# Altium footprint library AdamsParts.PcbLib: 238 footprints (part 3 of 15)
Each footprint in its own frame and in the unit in brackets; x right, y up, seen from the top. Pads: shape width x height; smd on the part's side, far side on the other; paste and mask are expansions set on the pad; w line width, h text height; cw(c..) or ccw(c..) is an arc to the next point about the centre after c.
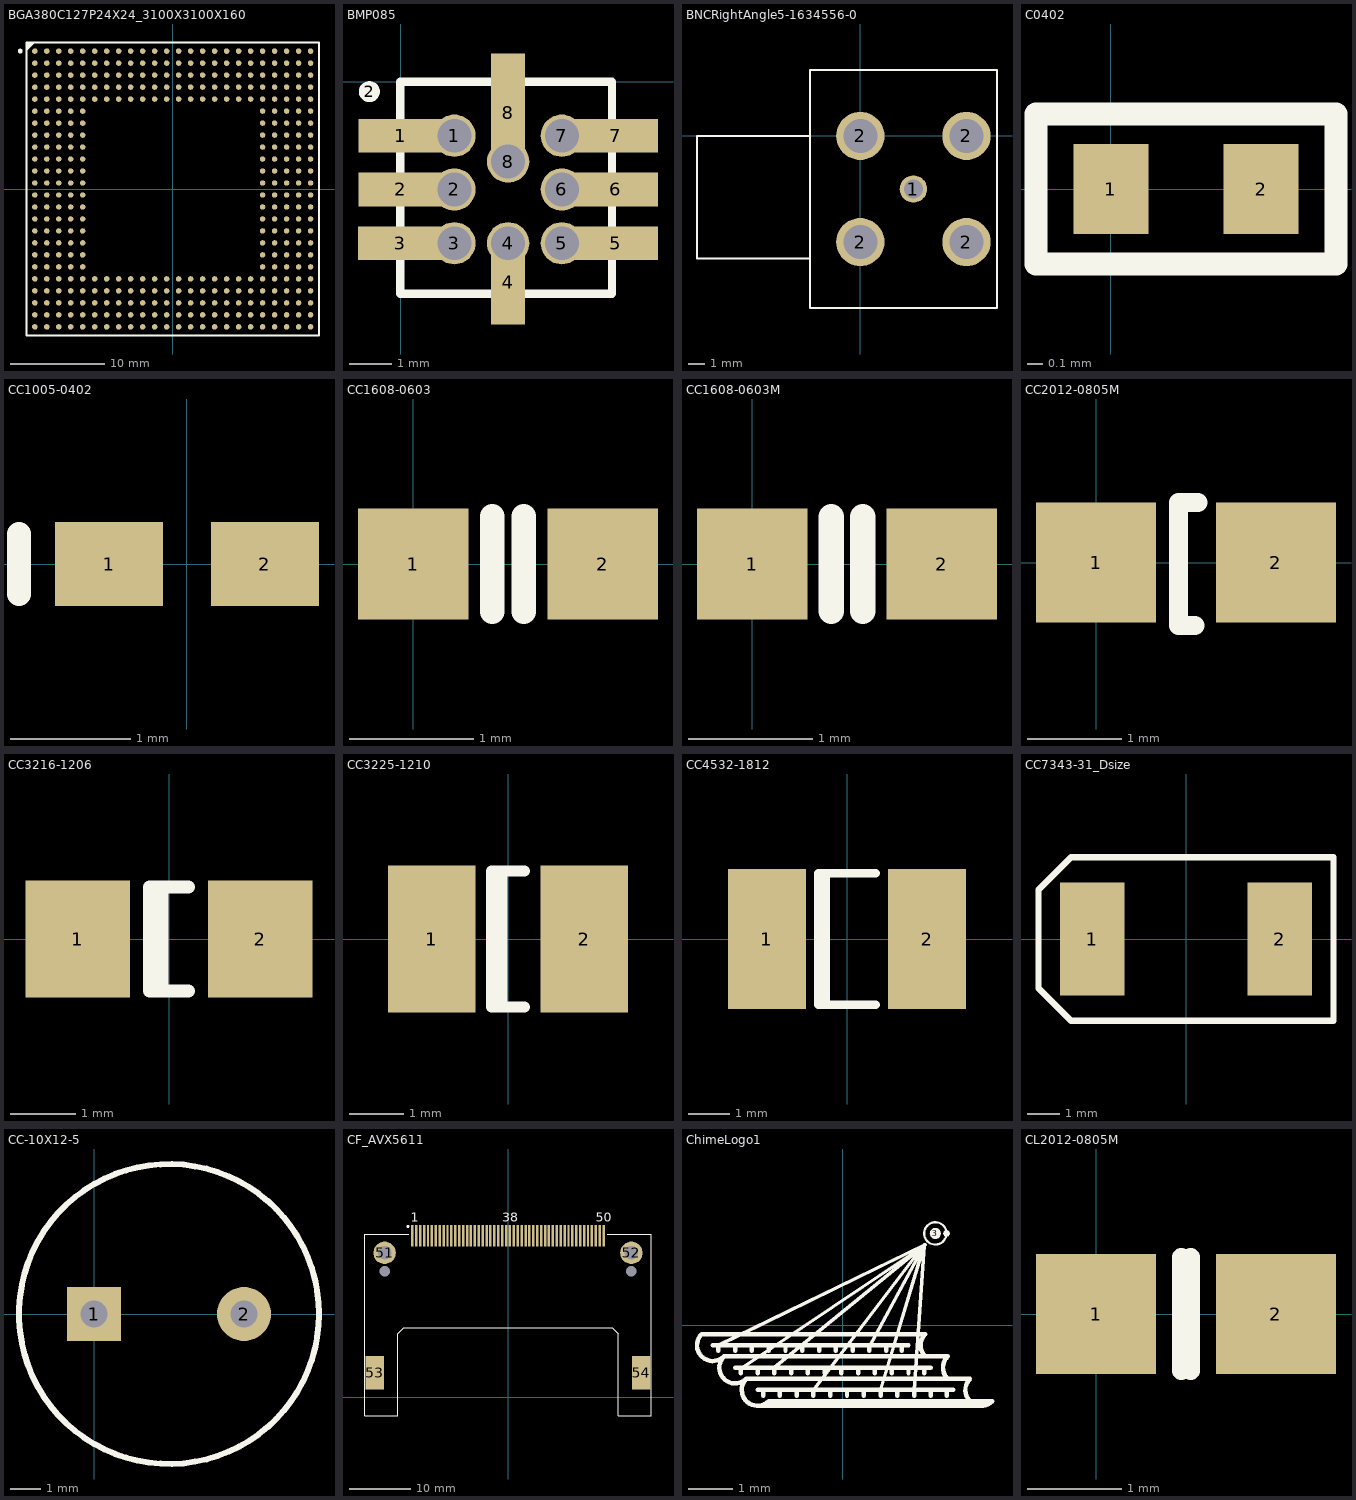
[diagram p2: the footprints below, top view; thin cyan lines are the x and y axes]

## BGA380C127P24X24_3100X3100X160 [mm] "BGA, 380-Leads, Body 31.0x31.0mm,  Pitch 1.27mm"
height 1.6
pads (380):
  round 0.58 smd: A1(-14.605,14.605) A2(-13.335,14.605) A3(-12.065,14.605) A4(-10.795,14.605) A5(-9.525,14.605) A6(-8.255,14.605) A7(-6.985,14.605) A8(-5.715,14.605) A9(-4.445,14.605) A10(-3.175,14.605) A11(-1.905,14.605) A12(-0.635,14.605) A13(0.635,14.605) A14(1.905,14.605) A15(3.175,14.605) A16(4.445,14.605) A17(5.715,14.605) A18(6.985,14.605) A19(8.255,14.605) A20(9.525,14.605) A21(10.795,14.605) A22(12.065,14.605) A23(13.335,14.605) A24(14.605,14.605) AA1(-14.605,-10.795) AA2(-13.335,-10.795) AA3(-12.065,-10.795) AA4(-10.795,-10.795) AA5(-9.525,-10.795) AA6(-8.255,-10.795) AA7(-6.985,-10.795) AA8(-5.715,-10.795) AA9(-4.445,-10.795) AA10(-3.175,-10.795) AA11(-1.905,-10.795) AA12(-0.635,-10.795) AA13(0.635,-10.795) AA14(1.905,-10.795) AA15(3.175,-10.795) AA16(4.445,-10.795) AA17(5.715,-10.795) AA18(6.985,-10.795) AA19(8.255,-10.795) AA20(9.525,-10.795) AA21(10.795,-10.795) AA22(12.065,-10.795) AA23(13.335,-10.795) AA24(14.605,-10.795) AB1(-14.605,-12.065) AB2(-13.335,-12.065) AB3(-12.065,-12.065) AB4(-10.795,-12.065) AB5(-9.525,-12.065) AB6(-8.255,-12.065) AB7(-6.985,-12.065) AB8(-5.715,-12.065) AB9(-4.445,-12.065) AB10(-3.175,-12.065) AB11(-1.905,-12.065) AB12(-0.635,-12.065) AB13(0.635,-12.065) AB14(1.905,-12.065) AB15(3.175,-12.065) AB16(4.445,-12.065) AB17(5.715,-12.065) AB18(6.985,-12.065) AB19(8.255,-12.065) AB20(9.525,-12.065) AB21(10.795,-12.065) AB22(12.065,-12.065) AB23(13.335,-12.065) AB24(14.605,-12.065) AC1(-14.605,-13.335) AC2(-13.335,-13.335) AC3(-12.065,-13.335) AC4(-10.795,-13.335) AC5(-9.525,-13.335) AC6(-8.255,-13.335) AC7(-6.985,-13.335) AC8(-5.715,-13.335) AC9(-4.445,-13.335) AC10(-3.175,-13.335) AC11(-1.905,-13.335) AC12(-0.635,-13.335) AC13(0.635,-13.335) AC14(1.905,-13.335) AC15(3.175,-13.335) AC16(4.445,-13.335) AC17(5.715,-13.335) AC18(6.985,-13.335) AC19(8.255,-13.335) AC20(9.525,-13.335) AC21(10.795,-13.335) AC22(12.065,-13.335) AC23(13.335,-13.335) AC24(14.605,-13.335) AD1(-14.605,-14.605) AD2(-13.335,-14.605) AD3(-12.065,-14.605) AD4(-10.795,-14.605) AD5(-9.525,-14.605) AD6(-8.255,-14.605) AD7(-6.985,-14.605) AD8(-5.715,-14.605) AD9(-4.445,-14.605) AD10(-3.175,-14.605) AD11(-1.905,-14.605) AD12(-0.635,-14.605) AD13(0.635,-14.605) AD14(1.905,-14.605) AD15(3.175,-14.605) AD16(4.445,-14.605) AD17(5.715,-14.605) AD18(6.985,-14.605) AD19(8.255,-14.605) AD20(9.525,-14.605) AD21(10.795,-14.605) AD22(12.065,-14.605) AD23(13.335,-14.605) AD24(14.605,-14.605) B1(-14.605,13.335) B2(-13.335,13.335) B3(-12.065,13.335) B4(-10.795,13.335) B5(-9.525,13.335) B6(-8.255,13.335) B7(-6.985,13.335) B8(-5.715,13.335) B9(-4.445,13.335) B10(-3.175,13.335) B11(-1.905,13.335) B12(-0.635,13.335) B13(0.635,13.335) B14(1.905,13.335) B15(3.175,13.335) B16(4.445,13.335) B17(5.715,13.335) B18(6.985,13.335) B19(8.255,13.335) B20(9.525,13.335) B21(10.795,13.335) B22(12.065,13.335) B23(13.335,13.335) B24(14.605,13.335) C1(-14.605,12.065) C2(-13.335,12.065) C3(-12.065,12.065) C4(-10.795,12.065) C5(-9.525,12.065) C6(-8.255,12.065) C7(-6.985,12.065) C8(-5.715,12.065) C9(-4.445,12.065) C10(-3.175,12.065) C11(-1.905,12.065) C12(-0.635,12.065) C13(0.635,12.065) C14(1.905,12.065) C15(3.175,12.065) C16(4.445,12.065) C17(5.715,12.065) C18(6.985,12.065) C19(8.255,12.065) C20(9.525,12.065) C21(10.795,12.065) C22(12.065,12.065) C23(13.335,12.065) C24(14.605,12.065) D1(-14.605,10.795) D2(-13.335,10.795) D3(-12.065,10.795) D4(-10.795,10.795) D5(-9.525,10.795) D6(-8.255,10.795) D7(-6.985,10.795) D8(-5.715,10.795) D9(-4.445,10.795) D10(-3.175,10.795) D11(-1.905,10.795) D12(-0.635,10.795) D13(0.635,10.795) D14(1.905,10.795) D15(3.175,10.795) D16(4.445,10.795) D17(5.715,10.795) D18(6.985,10.795) D19(8.255,10.795) D20(9.525,10.795) D21(10.795,10.795) D22(12.065,10.795) D23(13.335,10.795) D24(14.605,10.795) E1(-14.605,9.525) E2(-13.335,9.525) E3(-12.065,9.525) E4(-10.795,9.525) E5(-9.525,9.525) E6(-8.255,9.525) E7(-6.985,9.525) E8(-5.715,9.525) E9(-4.445,9.525) E10(-3.175,9.525) E11(-1.905,9.525) E12(-0.635,9.525) E13(0.635,9.525) E14(1.905,9.525) E15(3.175,9.525) E16(4.445,9.525) E17(5.715,9.525) E18(6.985,9.525) E19(8.255,9.525) E20(9.525,9.525) E21(10.795,9.525) E22(12.065,9.525) E23(13.335,9.525) E24(14.605,9.525) F1(-14.605,8.255) F2(-13.335,8.255) F3(-12.065,8.255) F4(-10.795,8.255) F5(-9.525,8.255) F20(9.525,8.255) F21(10.795,8.255) F22(12.065,8.255) F23(13.335,8.255) F24(14.605,8.255) G1(-14.605,6.985) G2(-13.335,6.985) G3(-12.065,6.985) G4(-10.795,6.985) G5(-9.525,6.985) G20(9.525,6.985) G21(10.795,6.985) G22(12.065,6.985) G23(13.335,6.985) G24(14.605,6.985) H1(-14.605,5.715) H2(-13.335,5.715) H3(-12.065,5.715) H4(-10.795,5.715) H5(-9.525,5.715) H20(9.525,5.715) H21(10.795,5.715) H22(12.065,5.715) H23(13.335,5.715) H24(14.605,5.715) J1(-14.605,4.445) J2(-13.335,4.445) J3(-12.065,4.445) J4(-10.795,4.445) J5(-9.525,4.445) J20(9.525,4.445) J21(10.795,4.445) J22(12.065,4.445) J23(13.335,4.445) J24(14.605,4.445) K1(-14.605,3.175) K2(-13.335,3.175) K3(-12.065,3.175) K4(-10.795,3.175) K5(-9.525,3.175) K20(9.525,3.175) K21(10.795,3.175) K22(12.065,3.175) K23(13.335,3.175) K24(14.605,3.175) L1(-14.605,1.905) L2(-13.335,1.905) L3(-12.065,1.905) L4(-10.795,1.905) L5(-9.525,1.905) L20(9.525,1.905) L21(10.795,1.905) L22(12.065,1.905) L23(13.335,1.905) L24(14.605,1.905) M1(-14.605,0.635) M2(-13.335,0.635) M3(-12.065,0.635) M4(-10.795,0.635) M5(-9.525,0.635) M20(9.525,0.635) M21(10.795,0.635) M22(12.065,0.635) M23(13.335,0.635) M24(14.605,0.635) N1(-14.605,-0.635) N2(-13.335,-0.635) N3(-12.065,-0.635) N4(-10.795,-0.635) N5(-9.525,-0.635) N20(9.525,-0.635) N21(10.795,-0.635) N22(12.065,-0.635) N23(13.335,-0.635) N24(14.605,-0.635) P1(-14.605,-1.905) P2(-13.335,-1.905) P3(-12.065,-1.905) P4(-10.795,-1.905) P5(-9.525,-1.905) P20(9.525,-1.905) P21(10.795,-1.905) P22(12.065,-1.905) P23(13.335,-1.905) P24(14.605,-1.905) R1(-14.605,-3.175) R2(-13.335,-3.175) R3(-12.065,-3.175) R4(-10.795,-3.175) R5(-9.525,-3.175) R20(9.525,-3.175) R21(10.795,-3.175) R22(12.065,-3.175) R23(13.335,-3.175) R24(14.605,-3.175) T1(-14.605,-4.445) T2(-13.335,-4.445) T3(-12.065,-4.445) T4(-10.795,-4.445) T5(-9.525,-4.445) T20(9.525,-4.445) T21(10.795,-4.445) T22(12.065,-4.445) T23(13.335,-4.445) T24(14.605,-4.445) U1(-14.605,-5.715) U2(-13.335,-5.715) U3(-12.065,-5.715) U4(-10.795,-5.715) U5(-9.525,-5.715) U20(9.525,-5.715) U21(10.795,-5.715) U22(12.065,-5.715) U23(13.335,-5.715) U24(14.605,-5.715) V1(-14.605,-6.985) V2(-13.335,-6.985) V3(-12.065,-6.985) V4(-10.795,-6.985) V5(-9.525,-6.985) V20(9.525,-6.985) V21(10.795,-6.985) V22(12.065,-6.985) V23(13.335,-6.985) V24(14.605,-6.985) W1(-14.605,-8.255) W2(-13.335,-8.255) W3(-12.065,-8.255) W4(-10.795,-8.255) W5(-9.525,-8.255) W20(9.525,-8.255) W21(10.795,-8.255) W22(12.065,-8.255) W23(13.335,-8.255) W24(14.605,-8.255) Y1(-14.605,-9.525) Y2(-13.335,-9.525) Y3(-12.065,-9.525) Y4(-10.795,-9.525) Y5(-9.525,-9.525) Y6(-8.255,-9.525) Y7(-6.985,-9.525) Y8(-5.715,-9.525) Y9(-4.445,-9.525) Y10(-3.175,-9.525) Y11(-1.905,-9.525) Y12(-0.635,-9.525) Y13(0.635,-9.525) Y14(1.905,-9.525) Y15(3.175,-9.525) Y16(4.445,-9.525) Y17(5.715,-9.525) Y18(6.985,-9.525) Y19(8.255,-9.525) Y20(9.525,-9.525) Y21(10.795,-9.525) Y22(12.065,-9.525) Y23(13.335,-9.525) Y24(14.605,-9.525)
Top Overlay:
  circle w0.25: c-16.15,14.605 r0.125
  region: -14.686,15.5 -15.5,14.686 -15.5,15.5
  lines w0.2: -15.5,14.686 -14.686,15.5 ; -15.5,-15.5 15.5,-15.5 15.5,15.5 -15.5,15.5 -15.5,-15.5

## BMP085 [mm] "Pressure sensor"
pads (17):
  rect 2x0.8 smd: 1(0,-1.27) 2(0,-2.54) 3(-0.007,-3.81) 5(5.08,-3.81) 6(5.08,-2.54) 7(5.08,-1.27)
  round 1 hole 0.8: 1(1.27,-1.27) 2(1.27,-2.54) 3(1.27,-3.81) 4(2.54,-3.81) 5(3.81,-3.81) 6(3.81,-2.54) 7(3.81,-1.27) 8(2.54,-1.88)
  round 0.5 on Top Overlay: 2(-0.737,-0.229)
  rect 0.8x2 smd: 4(2.54,-4.729)
  rect 0.8x2.8 smd: 8(2.54,-0.729)
Top Overlay:
  lines w0.2: -0.007,-4.999 4.993,-4.999 4.993,0.001 -0.007,0.001 -0.007,-4.999

## BNCRightAngle5-1634556-0 [mm]
pads (5):
  round 1.7 hole 1.17: 1(3.3,-3.3)
  round 3 hole 2.11: 2(0,-6.6) 2(0,0) 2(6.6,-6.6) 2(6.6,0)
Top Overlay:
  lines w0.127: -3.12,-7.62 -10.16,-7.62 -10.16,0 -3.12,0 ; -3.12,-10.7 8.5,-10.7 8.5,4.1 -3.12,4.1 -3.12,-10.7

## C0402 [mm]
pads (2):
  rect 0.5x0.6 smd: 1(0,0) 2(1,0)
Top Overlay:
  lines w0.152: -0.5,-0.5 -0.5,0.5 1.5,0.5 1.5,-0.5 -0.5,-0.5

## CC1005-0402 [mm]
pads (2):
  rect 0.9x0.7 smd: 1(-0.65,0) 2(0.65,0)
Top Overlay:
  lines w0.2: -1.4,-0.25 -1.4,0.25

## CC1608-0603 [mil]
pads (2):
  rect 35x35 smd: 1(0,0) 2(60,0)
Top Overlay:
  lines w7.87: 25,-15 25,15 ; 35,-15 35,15

## CC1608-0603M [mil]
pads (2):
  rect 35x35 smd: 1(0,0) 2(60,0)
Top Overlay:
  lines w8: 25,-15 25,15 ; 35,-15 35,15

## CC2012-0805M [mm]
pads (2):
  rect 1.27x1.27 smd: 1(0,0) 2(1.9,0)
Top Overlay:
  lines w0.2: 1.047,-0.665 0.873,-0.665 0.873,0.635 1.077,0.635

## CC3216-1206 [mm]
pads (2):
  rect 1.6x1.8 smd: 1(-1.4,0) 2(1.4,0)
Top Overlay:
  lines w0.2: -0.11,-0.8 -0.11,0.8 ; 0.3,-0.8 -0.3,-0.8 -0.3,0.8 0.3,0.8

## CC3225-1210 [mm]
pads (2):
  rect 1.6x2.7 smd: 1(-1.4,0) 2(1.4,0)
Top Overlay:
  lines w0.2: -0.11,-1.25 -0.11,1.25 ; 0.3,-1.25 -0.3,-1.25 -0.3,1.25 0.3,1.25

## CC4532-1812 [mm]
pads (2):
  rect 1.9x3.4 smd: 1(-1.95,0) 2(1.95,0)
Top Overlay:
  lines w0.2: -0.51,-1.6 -0.51,1.6 ; 0.7,-1.6 -0.7,-1.6 -0.7,1.6 0.7,1.6

## CC7343-31_Dsize [mm]
pads (2):
  rect 2x3.5 smd: 1(-2.9,0) 2(2.9,0)
Top Overlay:
  lines w0.2: 4.572,-0.04 4.572,-2.54 -3.556,-2.54 -4.572,-1.524 -4.572,1.524 -3.556,2.54 4.572,2.54 ; 4.572,0 4.572,2.5

## CC-10X12-5 [mm]
pads (2):
  rect 1.8x1.8 hole 0.889: 1(0,0)
  round 1.8 hole 0.889: 2(5,0)
Top Overlay:
  circle w0.2: c2.5,0 r5
Bottom Overlay:
  lines w0.254: -2,0 -1.2,0 ; -1.6,-0.4 -1.6,0.4

## CF_AVX5611 [mm]
pads (56):
  rect 0.4x3.5 smd: 1(-15.557,26.3) 2(-14.287,26.3) 3(-13.017,26.3) 4(-11.747,26.3) 5(-10.477,26.3) 6(-9.207,26.3) 7(-7.937,26.3) 8(-6.667,26.3) 9(-5.397,26.3) 10(-4.127,26.3) 11(-2.857,26.3) 12(-1.587,26.3) 13(-0.317,26.3) 14(0.953,26.3) 15(2.223,26.3) 16(3.493,26.3) 17(4.763,26.3) 18(6.033,26.3) 19(7.303,26.3) 20(8.573,26.3) 21(9.843,26.3) 22(11.113,26.3) 23(12.383,26.3) 24(13.653,26.3) 25(14.923,26.3) 26(-14.922,26.3) 27(-13.652,26.3) 28(-12.383,26.3) 29(-11.112,26.3) 30(-9.842,26.3) 31(-8.572,26.3) 32(-7.302,26.3) 33(-6.032,26.3) 34(-4.762,26.3) 35(-3.492,26.3) 36(-2.222,26.3) 37(-0.952,26.3) 38(0.318,26.3) 39(1.588,26.3) 40(2.858,26.3) 41(4.128,26.3) 42(5.398,26.3) 43(6.668,26.3) 44(7.938,26.3) 45(9.208,26.3) 46(10.478,26.3) 47(11.748,26.3) 48(13.018,26.3) 49(14.288,26.3) 50(15.558,26.3)
  round 3.65 hole 2.2: 51(-20.08,23.5) 52(20.08,23.5)
  rect 3x5.4 smd: 53(-21.71,4) 54(21.71,4)
  round 1.4 hole 1.7 unplated: 55(-20.08,20.5) 56(20.08,20.5)
Top Overlay:
  circle w0.25: c-16.3,27.8 r0.125
  lines w0.2: -23.32,13.09 -23.3,26.5 -16.16,26.5 ; -23.3,13.1 -23.3,-3 -17.95,-3 ; -17.95,-2.99 -17.95,10.3 -16.95,11.3 16.95,11.3 17.95,10.3 17.94,-3 ; 16.16,26.5 23.3,26.5 23.29,13.1 ; 17.95,-3 23.3,-3 23.3,13.1
  text "38" at -0.907,28.6 h1.5
  text "1" at -15.807,28.6 h1.5
  text "50" at 14.308,28.6 h1.5

## ChimeLogo1 [mil]
pads (2):
  round 10 on Top Overlay: 3(83,82)
  round 6 on Top Overlay: 3(93,82)
Top Overlay:
  circle w2: c83,82 r10
  lines w3: -111,-18 74,72 -61,-38 ; -91,-39 73,71 ; -26,-58 73,72 34,-58 ; 24,-19 73,71 ; 64,-58 73,71
  lines w4: -116,-18 59,-18 ; -111,-23 -111,-18 ; -96,-38 79,-38 ; -96,-23 -96,-18 ; -91,-43 -91,-38 ; -81,-23 -81,-18 ; -76,-72 125,-72 129,-68 ; -76,-58 99,-58 ; -76,-43 -76,-38 ; -71,-63 -71,-58 ; -66,-23 -66,-18 ; -61,-43 -61,-38 ; -56,-63 -56,-58 ; -51,-23 -51,-18 ; -46,-43 -46,-38 ; -41,-63 -41,-58 ; -36,-23 -36,-18 ; -31,-43 -31,-38 ; -26,-63 -26,-58 ; -21,-23 -21,-18 ; -16,-43 -16,-38 ; -11,-63 -11,-58 ; -6,-23 -6,-18 ; -1,-43 -1,-38 ; 4,-63 4,-58 ; 9,-23 9,-18 ; 14,-43 14,-38 ; 19,-63 19,-58 ; 24,-23 24,-18 ; 29,-43 29,-38 ; 34,-63 34,-58 ; 39,-23 39,-18 ; 44,-43 44,-38 ; 49,-63 49,-58 ; 53,-23 53,-18 ; 59,-43 59,-38 ; 64,-63 64,-58 ; 73,-43 73,-38 ; 74,-28 cw(c84,-18) 74,-8 -126,-8 ccw(c-116,-18) -106,-28 ; 79,-63 79,-58 ; 93,-63 93,-58 ; 94,-48 cw(c104,-38) 94,-28 -106,-28 ; -106,-28 ccw(c-96,-38) -86,-48 ; -86,-48 ccw(c-76,-58) -66,-68 134,-68 cw(c124,-58) 114,-48 -86,-48

## CL2012-0805M [mm]
pads (2):
  rect 1.27x1.27 smd: 1(0,0) 2(1.9,0)
Top Overlay:
  lines w0.2: 0.9,-0.6 0.9,0.6 ; 1,-0.6 1,0.6